# EAGLE library part LCD- (library elpp-tht-v1.2)
Display, LCD, alphanumeric with backlight.
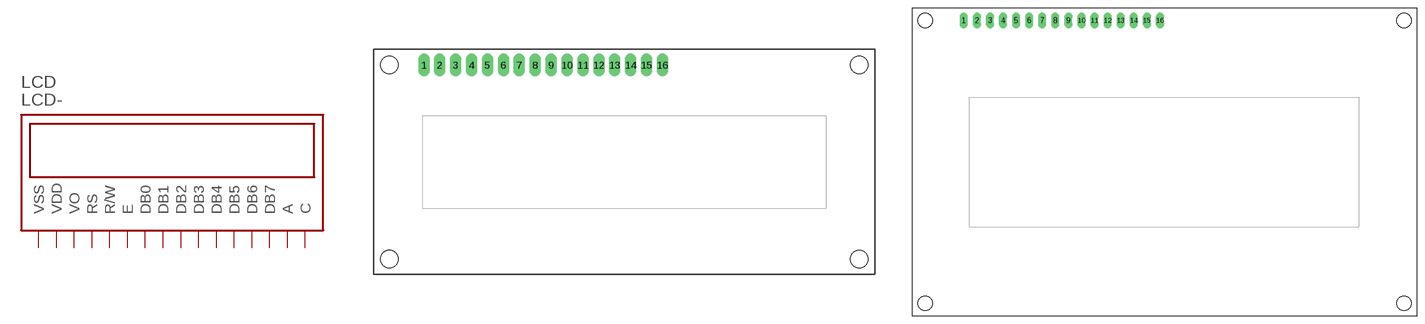
[diagram p3: symbol with the pads of ELPP-LCD-2X16; footprints ELPP-LCD-2X16, ELPP-LCD-4X20]

Designator prefix LCD

## LCD-2X16 (FARNELL: 2063236; RS: 7200207)  [ELPP-LCD-2X16]
1  VSS  pas
2  VDD  pas
3  VO
4  RS  in
5  R/W  in
6  E  in
7  DB0
8  DB1
9  DB2
10  DB3
11  DB4
12  DB5
13  DB6
14  DB7
15  A  pas
16  C  pas

## LCD-4X20 (FARNELL: 2063126; RS: 7200226)  [ELPP-LCD-4X20]
Pads as for ELPP-LCD-2X16

## Footprint ELPP-LCD-2X16 (pad centres in mm)
LCD module, 2 rows, 16 columns, 14 pin interface + backlight.
drill 1 pad 1.8 long: 1 -32,15.5; 2 -29.46,15.5; 3 -26.92,15.5; 4 -24.38,15.5; 5 -21.84,15.5; 6 -19.3,15.5; 7 -16.76,15.5; 8 -14.22,15.5; 9 -11.68,15.5; 10 -9.14,15.5; 11 -6.6,15.5; 12 -4.06,15.5; 13 -1.52,15.5; 14 1.02,15.5; 15 3.56,15.5; 16 6.1,15.5
hole 2.8 at -37.5,15.5
hole 2.8 at -37.5,-15.5
hole 2.8 at 37.5,15.5
hole 2.8 at 37.5,-15.5

## Footprint ELPP-LCD-4X20 (pad centres in mm)
LCD module, 4 rows, 20 columns, 14 pin interface + backlight.
drill 1 pad 1.6 long: 1 -38.746,27.297; 2 -36.206,27.297; 3 -33.666,27.297; 4 -31.126,27.297; 5 -28.586,27.297; 6 -26.046,27.297; 7 -23.506,27.297; 8 -20.966,27.297; 9 -18.426,27.297; 10 -15.886,27.297; 11 -13.346,27.297; 12 -10.806,27.297; 13 -8.266,27.297; 14 -5.726,27.297; 15 -3.186,27.297; 16 -0.646,27.297
hole 2.8 at 46.754,27.297
hole 2.8 at 46.754,-27.703
hole 2.8 at -46.246,-27.703
hole 2.8 at -46.246,27.297